# Altium footprint library MODULEWIFI_ESP.PcbLib: 18 footprints (part 2 of 2)
Each footprint in its own frame and in the unit in brackets; x right, y up, seen from the top. Pads: shape width x height; smd on the part's side, far side on the other; paste and mask are expansions set on the pad; w line width, h text height; cw(c..) or ccw(c..) is an arc to the next point about the centre after c.
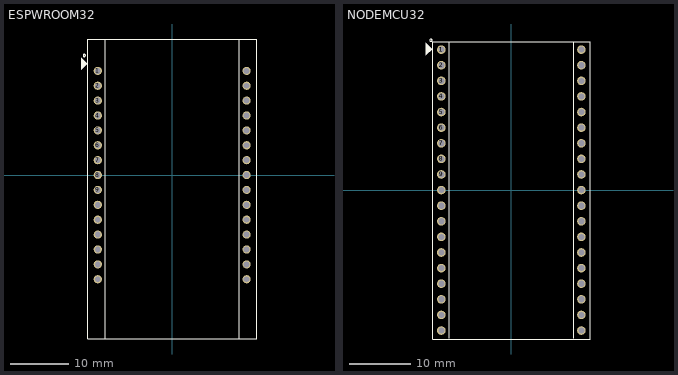
[diagram p1: the footprints below, top view; thin cyan lines are the x and y axes]

## ESPWROOM32 [mm] "ESP-WROOM-32"
pads (30):
  round 1.4 / inner round 1.4 / far side oval 2.2x1.4 hole 1: 1(-12.7,17.78) 2(-12.7,15.24) 3(-12.7,12.7) 4(-12.7,10.16) 5(-12.7,7.62) 6(-12.7,5.08) 7(-12.7,2.54) 8(-12.7,0) 9(-12.7,-2.54) 10(-12.7,-5.08) 11(-12.7,-7.62) 12(-12.7,-10.16) 13(-12.7,-12.7) 14(-12.7,-15.24) 15(-12.7,-17.78) 16(12.7,-17.78) 17(12.7,-15.24) 18(12.7,-12.7) 19(12.7,-10.16) 20(12.7,-7.62) 21(12.7,-5.08) 22(12.7,-2.54) 23(12.7,0) 24(12.7,2.54) 25(12.7,5.08) 26(12.7,7.62) 27(12.7,10.16) 28(12.7,12.7) 29(12.7,15.24) 30(12.7,17.78)
Top Overlay:
  circle w0.2: c-15,20.41 r0.2
  region: -14.5,18.98 -15.5,19.98 -15.5,17.98
  lines w0.2: -11.43,-27.98 -11.43,23.22 ; 11.43,-27.98 11.43,23.22 ; -14.4,-27.98 14.4,-27.98 14.4,23.22 -14.4,23.22 -14.4,-27.98
3D body "ESP-32_v1.STEP": height 15.9, standoff 3.5, extent -14.25,-27.82 14.25,23.11
3D body "PBD-2.stp": height 8.5, standoff -3.15, extent 11.43,-11.41 13.97,-6.33
3D body "PBD-2.stp": height 8.5, standoff -3.15, extent 11.43,-6.33 13.97,-1.25
3D body "PBD-2.stp": height 8.5, standoff -3.15, extent 11.43,-1.25 13.97,3.83
3D body "PBD-2.stp": height 8.5, standoff -3.15, extent 11.43,3.83 13.97,8.91
3D body "PBD-2.stp": height 8.5, standoff -3.15, extent 11.43,8.91 13.97,13.99
3D body "PBD-2.stp": height 8.5, standoff -3.15, extent 11.43,13.99 13.97,19.07
3D body "PBS-1.stp": height 8.5, standoff -3.15, extent 11.43,-19.01 13.97,-16.47
3D body "PBS-1.stp": height 8.5, standoff -3.15, extent -13.97,-19.01 -11.43,-16.47
3D body "PBD-2.stp": height 8.5, standoff -3.15, extent -13.97,13.99 -11.43,19.07
3D body "PBD-2.stp": height 8.5, standoff -3.15, extent -13.97,8.91 -11.43,13.99
3D body "PBD-2.stp": height 8.5, standoff -3.15, extent -13.97,3.83 -11.43,8.91
3D body "PBD-2.stp": height 8.5, standoff -3.15, extent -13.97,-1.25 -11.43,3.83
3D body "PBD-2.stp": height 8.5, standoff -3.15, extent -13.97,-6.33 -11.43,-1.25
3D body "PBD-2.stp": height 8.5, standoff -3.15, extent -13.97,-11.41 -11.43,-6.33
3D body "PBD-2.stp": height 8.5, standoff -3.15, extent -13.97,-16.49 -11.43,-11.41
3D body "PBD-2.stp": height 8.5, standoff -3.15, extent 11.43,-16.49 13.97,-11.41

## NODEMCU32 [mm] "NodeMCU-32s ESP-32s, 48.26x25.4mm"
pads (38):
  round 1.4 / inner round 1.4 / far side oval 2.2x1.4 hole 1: 1(-11.4,22.9) 2(-11.4,20.36) 3(-11.4,17.82) 4(-11.4,15.28) 5(-11.4,12.74) 6(-11.4,10.2) 7(-11.4,7.66) 8(-11.4,5.12) 9(-11.4,2.58) 10(-11.4,0.04) 11(-11.4,-2.5) 12(-11.4,-5.04) 13(-11.4,-7.58) 14(-11.4,-10.12) 15(-11.4,-12.66) 16(-11.4,-15.2) 17(-11.4,-17.74) 18(-11.4,-20.28) 19(-11.4,-22.82) 20(11.4,-22.82) 21(11.4,-20.28) 22(11.4,-17.74) 23(11.4,-15.2) 24(11.4,-12.66) 25(11.4,-10.12) 26(11.4,-7.58) 27(11.4,-5.04) 28(11.4,-2.5) 29(11.4,0.04) 30(11.4,2.58) 31(11.4,5.12) 32(11.4,7.66) 33(11.4,10.2) 34(11.4,12.74) 35(11.4,15.28) 36(11.4,17.82) 37(11.4,20.36) 38(11.4,22.9)
Top Overlay:
  circle w0.2: c-13.1,24.43 r0.2
  region: -12.9,23 -13.9,24 -13.9,22
  lines w0.2: -10.13,-24.09 -10.13,24.17 ; 10.13,-24.09 10.13,24.17 ; -12.8,-24.2 12.8,-24.2 12.8,24.2 -12.8,24.2 -12.8,-24.2
3D body "PBD-2.stp": height 8.5, standoff -3.15, extent 10.13,-21.55 12.67,-16.47
3D body "PBD-2.stp": height 8.5, standoff -3.15, extent 10.13,-16.47 12.67,-11.39
3D body "PBD-2.stp": height 8.5, standoff -3.15, extent 10.13,-11.39 12.67,-6.31
3D body "PBD-2.stp": height 8.5, standoff -3.15, extent 10.13,-6.31 12.67,-1.23
3D body "PBD-2.stp": height 8.5, standoff -3.15, extent 10.13,-1.23 12.67,3.85
3D body "PBD-2.stp": height 8.5, standoff -3.15, extent 10.13,3.85 12.67,8.93
3D body "PBD-2.stp": height 8.5, standoff -3.15, extent 10.13,8.93 12.67,14.01
3D body "PBD-2.stp": height 8.5, standoff -3.15, extent 10.13,14.01 12.67,19.09
3D body "PBD-2.stp": height 8.5, standoff -3.15, extent 10.13,19.09 12.67,24.17
3D body "PBS-1.stp": height 8.5, standoff -3.15, extent 10.13,-24.09 12.67,-21.55
3D body "PBS-1.stp": height 8.5, standoff -3.15, extent -12.67,-24.09 -10.13,-21.55
3D body "PBD-2.stp": height 8.5, standoff -3.15, extent -12.67,19.09 -10.13,24.17
3D body "PBD-2.stp": height 8.5, standoff -3.15, extent -12.67,14.01 -10.13,19.09
3D body "PBD-2.stp": height 8.5, standoff -3.15, extent -12.67,8.93 -10.13,14.01
3D body "PBD-2.stp": height 8.5, standoff -3.15, extent -12.67,3.85 -10.13,8.93
3D body "PBD-2.stp": height 8.5, standoff -3.15, extent -12.67,-1.23 -10.13,3.85
3D body "PBD-2.stp": height 8.5, standoff -3.15, extent -12.67,-6.31 -10.13,-1.23
3D body "PBD-2.stp": height 8.5, standoff -3.15, extent -12.67,-11.39 -10.13,-6.31
3D body "PBD-2.stp": height 8.5, standoff -3.15, extent -12.67,-16.47 -10.13,-11.39
3D body "PBD-2.stp": height 8.5, standoff -3.15, extent -12.67,-21.55 -10.13,-16.47
3D body: height 12, standoff 10, extent -12.7,-24.1 12.7,24.1